# Altium integrated library FYP_PPG_board.IntLib: 21 symbols
Pins are listed as number, name and electrical type; pins without a type are passive.

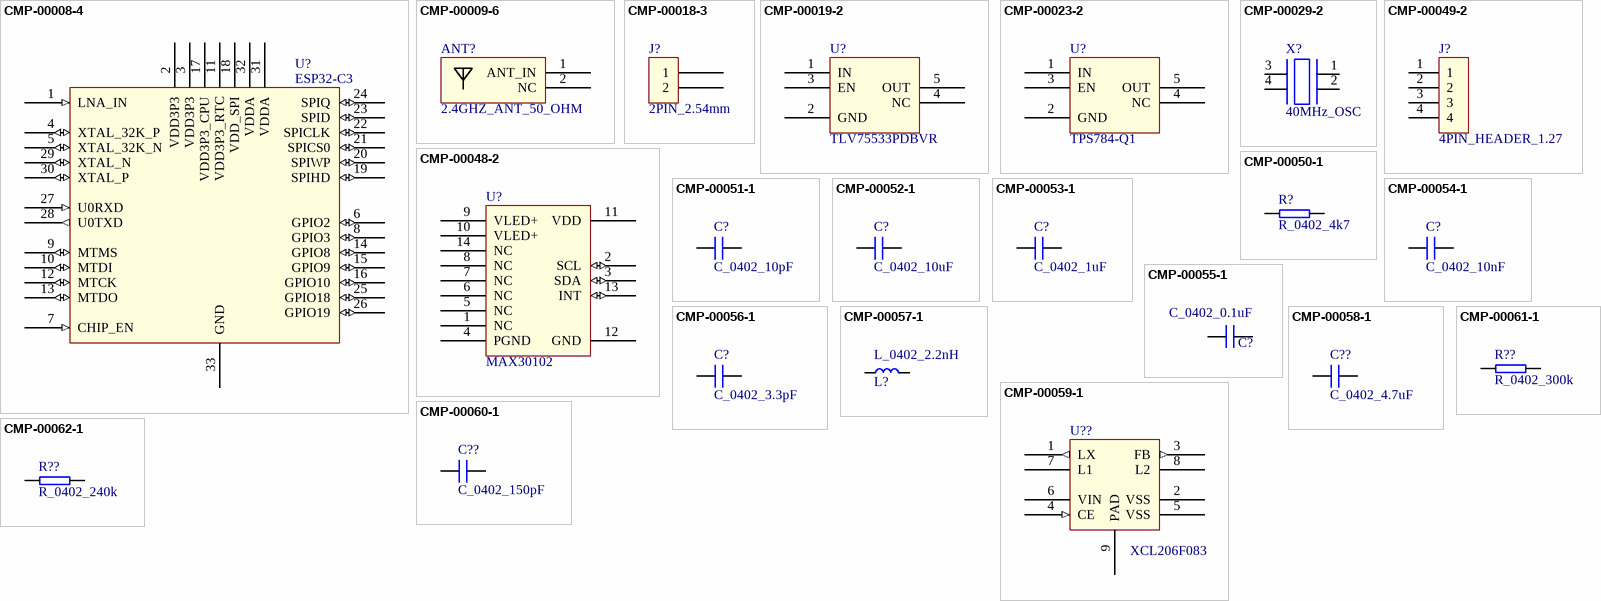
[diagram p0: symbols CMP-00008-4 to CMP-00062-1]

## CMP-00008-4
designator U?, comment ESP32-C3
33 pin ESP32_C3 Microcontroller; JLC Part Number: C2858491; Component Type: Processors
footprint QFN127P600-8N
pins: 1 LNA_IN (in), 2 VDD3P3 (power), 3 VDD3P3 (power), 4 XTAL_32K_P (io), 5 XTAL_32K_N (io), 6 GPIO2 (io), 7 CHIP_EN (in), 8 GPIO3 (io), 9 MTMS (io), 10 MTDI (io), 11 VDD3P3_RTC (power), 12 MTCK (io), 13 MTDO (io), 14 GPIO8 (io), 15 GPIO9 (io), 16 GPIO10 (io), 17 VDD3P3_CPU (power), 18 VDD_SPI (power), 19 SPIHD (io), 20 SPIWP (io), 21 SPICS0 (io), 22 SPICLK (io), 23 SPID (io), 24 SPIQ (io), 25 GPIO18 (io), 26 GPIO19 (io), 27 U0RXD (in), 28 U0TXD (out), 29 XTAL_N (io), 30 XTAL_P (io), 31 VDDA (power), 32 VDDA (power), 33 GND (power)

## CMP-00009-6
designator ANT?, comment 2.4GHZ_ANT_50_OHM
2.4GHz Chip Antenna 50 Ohm Impedance ANT2012LL00R2400A; Order Code: 603-ANT2012LL00R2400; Distributor: Mouser; Component Type: Radio&RF
footprint Chip2PinSM127P600-8N
pins: 1 ANT_IN, 2 NC

## CMP-00018-3
designator J?, comment 2PIN_2.54mm
2 pin power input; JLC Part Number: C5360898; Component Type: Connectors
footprint 2PIN_2.54mm-Footprint-1
pins: 1, 2

## CMP-00019-2
designator U?, comment TLV75533PDBVR
LDO Voltage Regulators 500-mA high-PSRR low-IQ low-dropout voltage regulator with enable 5-SOT-23 -40 to 125; JLC Part Number: C404027; Component Type: Power Supply
footprint SOT95P280X145-5N (SOT23, 5-Leads, Body 2.90x2.80mm, Pitch 0.95mm, IPC Medium Density)
pins: 1 IN, 2 GND, 3 EN, 4 NC, 5 OUT

## CMP-00023-2
designator U?, comment TPS784-Q1
LDO Voltage Regulators Automotive, 300-mA, low-IQ, high-PSRR, LDO voltage regulator with high accuracy and enable 5-SOT-23 -40 to 150; Order Code: 595-TPS78418QDBVRQ1; Distributor: Mouser; JLC Part Number: C2877783; Component Type: Power Supply
footprint SOT95P280X145-5N (SOT23, 5-Leads, Body 2.90x2.80mm, Pitch 0.95mm, IPC Medium Density)
pins: 1 IN, 2 GND, 3 EN, 4 NC, 5 OUT

## CMP-00029-2
designator X?, comment 40MHz_OSC
40 MHZ Oscillator, 10pF load capacitance; JLC Part Number: C426988; Component Type: Crystals & Oscillators
footprint 40MHz_OSC-Footprint-1
pins: 1, 2, 3, 4

## CMP-00048-2
designator U?, comment MAX30102
Biometric Sensors Integrated Optical Sensor; Order Code: 700-MAX30102EFD+T; JLC Part Number: C6454833; Distributor: Mouser; Component Type: Sensors
footprint MAX30102-Footprint-1
pins: 1 NC, 2 SCL (io), 3 SDA (io), 4 PGND (power), 5 NC, 6 NC, 7 NC, 8 NC, 9 VLED+ (power), 10 VLED+ (power), 11 VDD (power), 12 GND (power), 13 INT (io), 14 NC

## CMP-00049-2
designator J?, comment 4PIN_HEADER_1.27
Order Code: 855-M50-3530442; Distributor: Mouser; Component Type: Connectors
footprint 4PIN_HEADER_1.27-Footprint-1
pins: 1, 2, 3, 4

## CMP-00050-1
designator R?, comment R_0402_4k7
JLC Part Number: C25900; Component Type: Resistors
footprint R_0402
pins: 1, 2

## CMP-00051-1
designator C?, comment C_0402_10pF
JLC Part Number: C32949; Component Type: Capacitors
footprint C_0402
pins: 1, 2

## CMP-00052-1
designator C?, comment C_0402_10uF
JLC Part Number: C15525; Component Type: Capacitors
footprint C_0402
pins: 1, 2

## CMP-00053-1
designator C?, comment C_0402_1uF
JLC Part Number: C52923; Component Type: Capacitors
footprint C_0402
pins: 1, 2

## CMP-00054-1
designator C?, comment C_0402_10nF
JLC Part Number: C15195; Component Type: Capacitors
footprint C_0402
pins: 1, 2

## CMP-00055-1
designator C?, comment C_0402_0.1uF
JLC Part Number: C1525; Component Type: Capacitors
footprint C_0402
pins: 1, 2

## CMP-00056-1
designator C?, comment C_0402_3.3pF
JLC Part Number: C326841; Component Type: Capacitors
footprint C_0402
pins: 1, 2

## CMP-00057-1
designator L?, comment L_0402_2.2nH
JLC Part Number: C92035; Component Type: Inductors
footprint L_0402
pins: 1, 2

## CMP-00058-1
designator C??, comment C_0402_4.7uF
JLC Part Number: C23733; Component Type: Capacitors
footprint C_0402
pins: 1, 2

## CMP-00059-1
designator U??, comment XCL206F083
Switching Voltage Regulators 600mA Inductor Built-in PWM Step-Down microDCDC Converter; JLC Part Number: C2891283; Component Type: Power Supply
footprint XCL206F083-Footprint-1
pins: 1 LX (out), 2 VSS (power), 3 FB (out), 4 CE (in), 5 VSS (power), 6 VIN (power), 7 L1, 8 L2, 9 PAD (power)

## CMP-00060-1
designator C??, comment C_0402_150pF
JLC Part Number: C363531; Component Type: Capacitors
footprint C_0402
pins: 1, 2

## CMP-00061-1
designator R??, comment R_0402_300k
JLC Part Number: C100363; Component Type: Resistors
footprint R_0402
pins: 1, 2

## CMP-00062-1
designator R??, comment R_0402_240k
JLC Part Number: C429390; Component Type: Resistors
footprint R_0402
pins: 1, 2